# EAGLE library part ADR431ARMZ (library Hexabitz)
Ultralow Noise XFET Voltage References with Current Sink and Source Capability
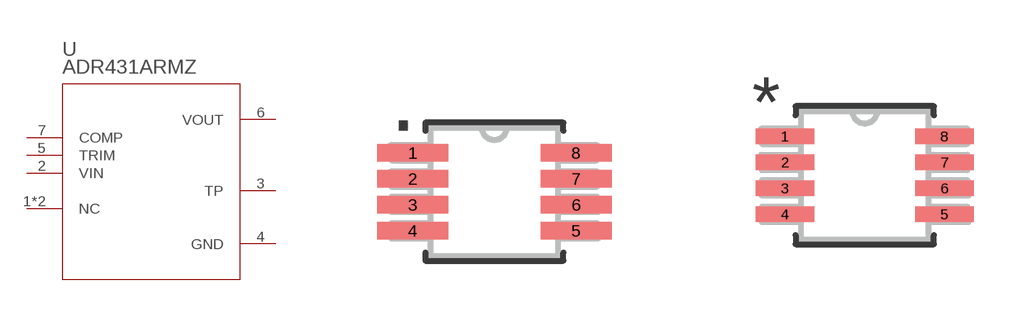
[diagram p18: symbol with the pads of RM_8; footprints RM_8, RM_8-L]

Designator prefix U

## ADR431ARMZ (MFN: Analog Devices; MPN: ADR431ARMZ; OCTOPART_URL: https://octopart.com/adr431armz-analog+devices-522522?r=sp&s=zV9aTwb9SbKgScTRVCw3wA)  [RM_8]
1  NC  pas
2  VIN  pas
3  TP  pas
4  GND  pas
5  TRIM  pas
6  VOUT  pas
7  COMP  pas
8  NC  pas

## ADR431ARMZL  [RM_8-L]
Pads as for RM_8

## ADR431ARMZM (MFN: Analog Devices; MPN: ADR431ARMZ; OCTOPART_URL: https://octopart.com/adr431armz-analog+devices-522522?r=sp&s=ZgE4YpEUTpCd5NM56OKC_A#)  [RM_8-M]
Pads as for RM_8

## Footprint RM_8 (pad centres in mm)
smd 1.778 x 0.432: 1 -2.045,0.975; 2 -2.045,0.325; 3 -2.045,-0.325; 4 -2.045,-0.975; 5 2.045,-0.975; 6 2.045,-0.325; 7 2.045,0.325; 8 2.045,0.975

## Footprint RM_8-L (pad centres in mm)
smd 1.473 x 0.381: 1 -1.994,0.975; 2 -1.994,0.325; 3 -1.994,-0.325; 4 -1.994,-0.975; 5 1.994,-0.975; 6 1.994,-0.325; 7 1.994,0.325; 8 1.994,0.975

## Footprint RM_8-M (pad centres in mm)
smd 2.083 x 0.483: 1 -2.095,0.975; 2 -2.095,0.325; 3 -2.095,-0.325; 4 -2.095,-0.975; 5 2.095,-0.975; 6 2.095,-0.325; 7 2.095,0.325; 8 2.095,0.975